# Altium schematic symbol library DIPSW2.Schlib: 1 symbol
Pins are listed as number, name and electrical type; pins without a type are passive.

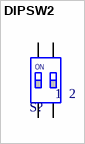
[diagram p0: symbol DIPSW2]

## DIPSW2
designator S?
pins: 1 A1, 2 A2, 3 B2, 4 B1
text: ON; 1  2